# EAGLE library part ARJC02-111008B (library CONNECTORs)
1 Port RJ45 Magjack Connector Through Hole 10/100 Base-TX, AutoMDIX
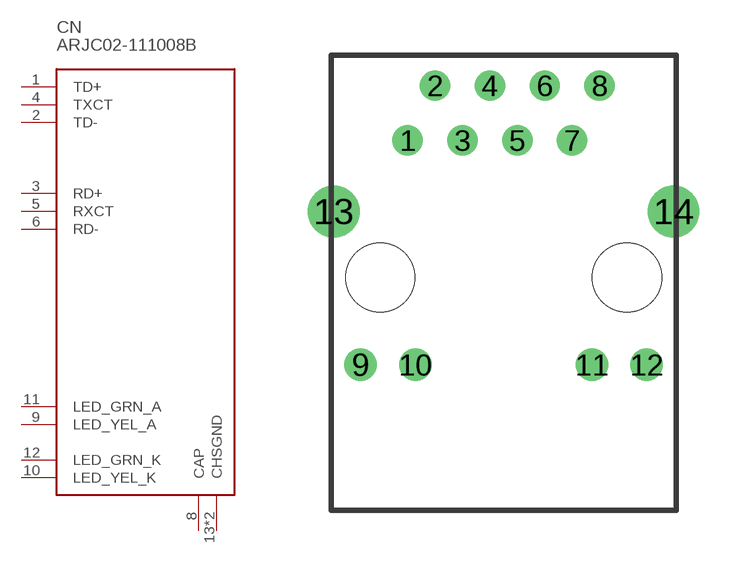
[diagram p29: symbol with the pads of ARJC02; footprint ARJC02]

Designator prefix CN

## ARJC02-111008B (DIGIKEY: 535-12605-ND; HEIGHT: 14; PRICE_PER: 2.15; VALUE: 10/100 RJ45)  [ARJC02]
1  TD+
2  TD-
3  RD+
4  TXCT
5  RXCT
6  RD-
8  CAP
9  LED_YEL_A
10  LED_YEL_K
11  LED_GRN_A
12  LED_GRN_K
13  CHSGND
14  CHSGND

## Footprint ARJC02 (pad centres in mm)
drill 0.9: 1 -4.45,6.35; 2 -3.175,8.89; 3 -1.905,6.35; 4 -0.635,8.89; 5 0.635,6.35; 6 1.905,8.89; 7 3.175,6.35; 8 4.445,8.89
drill 1: 9 -6.63,-4.06; 10 -4.09,-4.06; 11 4.09,-4.06; 12 6.63,-4.06
drill 1.6: 13 -7.875,3.05; 14 7.875,3.05
hole 3.2 at -5.715,0
hole 3.2 at 5.715,0